# Altium schematic symbol library Elet_pot_2.SchLib: 9 symbols
Pins are listed as number, name and electrical type; pins without a type are passive.

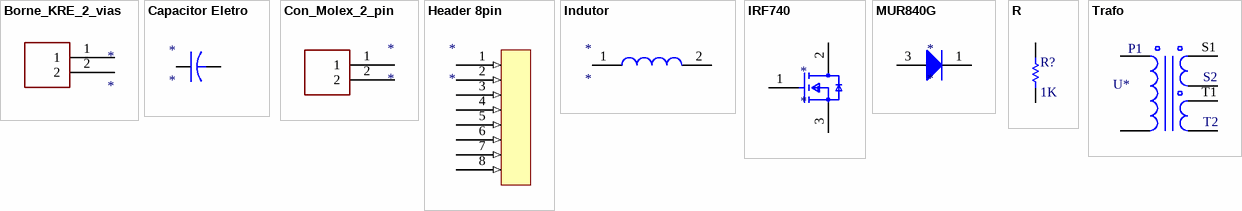
[diagram p0: symbols Borne_KRE_2_vias to Trafo]

## Borne_KRE_2_vias
designator *
footprint Borne_KRE_2pin
pins: 1, 2

## Capacitor Eletro
designator *
footprint Capacitor
pins: 1, 2

## Con_Molex_2_pin
designator *
footprint CON_MOLEX_2_vias
pins: 1, 2

## Header 8pin
designator *
footprint Header 8pin
pins: 1 (in), 2 1 (in), 3 (in), 4 (in), 5 (in), 6 (in), 7 (in), 8 (in)

## Indutor
designator *
footprint Indutor
pins: 1, 2

## IRF740
designator *
footprint IRF740
pins: 1 G, 2 D, 3 S

## MUR840G
designator *
footprint MUR840
pins: 1 K, 3 A

## R
designator R?  value 1K  (hidden comment: R)
Resistor; Published: 8-Jun-2000; LatestRevisionDate: 17-Jul-2002; LatestRevisionNote: Re-released for DXP Platform.; PackageReference: AXIAL-0.3; Publisher: Altium Limited
footprint AXIAL-0.3
simulation model RESISTOR (Resistor)
signal-integrity model Res
pins: 1, 2

## Trafo
designator U*  (value not drawn)
Transformador de 3 enrolamentos
footprint Trafo_NEE_30/14
pins: P1, P2 gg, S1, S2, S2, T1
text: T2